# Altium footprint library 93AA66C.PcbLib: 3 footprints
Each footprint in its own frame and in the unit in brackets; x right, y up, seen from the top. Pads: shape width x height; smd on the part's side, far side on the other; paste and mask are expansions set on the pad; w line width, h text height; cw(c..) or ccw(c..) is an arc to the next point about the centre after c.
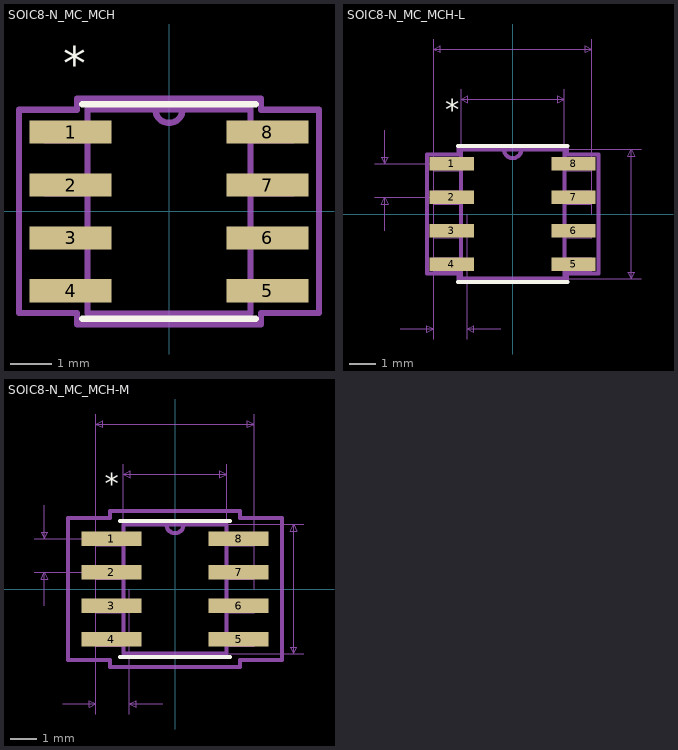
[diagram p0: the footprints below, top view; thin cyan lines are the x and y axes]

## SOIC8-N_MC_MCH [mil]
pads (8):
  rect 77.56x21.97 smd: 1(-93,75) 2(-93,25) 3(-93,-25) 4(-93,-75) 5(93,-75) 6(93,-25) 7(93,25) 8(93,75)
Top Overlay:
  lines w6: -82,-101.5 82,-101.5 ; -82,101.5 82,101.5
  text "*" at -100,125 h31.25
Outline:
  lines w1: -12,96.5 ccw(c0,96.5) 12,96.5 ; -118,-85 -118,-65 -77,-65 -77,-85 -118,-85 ; -118,-35 -118,-15 -77,-15 -77,-35 -118,-35 ; -118,15 -118,35 -77,35 -77,15 -118,15 ; -118,65 -118,85 -77,85 -77,65 -118,65 ; -77,-96.5 77,-96.5 77,96.5 -77,96.5 -77,-96.5 ; 77,-85 77,-65 118,-65 118,-85 77,-85 ; 77,-35 77,-15 118,-15 118,-35 77,-35 ; 77,15 77,35 118,35 118,15 77,15 ; 77,65 77,85 118,85 118,65 77,65
  text "*" at -62,93.5 h31.25
Courtyard Bottom:
  lines w6: -12.83,96.5 ccw(c0,96.5) 12.83,96.5 ; -141.78,-95.98 -141.78,95.98 -87,95.98 -87,106.5 87,106.5 87,95.98 141.78,95.98 141.78,-95.98 87,-95.98 87,-106.5 -87,-106.5 -87,-95.98 -141.78,-95.98 ; -77,-96.5 -77,96.5 77,96.5 77,-96.5 -77,-96.5
3D body: height 69.09, standoff 0, extent -117.99,-96.49 118,96.5

## SOIC8-N_MC_MCH-L [mil]
pads (8):
  rect 65.75x20 all layers, no hole: 1(-91.03,75) 2(-91.03,25) 3(-91.03,-25) 4(-91.03,-75) 5(91.03,-75) 6(91.03,-25) 7(91.03,25) 8(91.03,75)
Top Overlay:
  lines w6: -82,-101.5 82,-101.5 ; -82,101.5 82,101.5
  text "*" at -101.03,140 h31.25
Outline:
  lines w1: -12,96.5 ccw(c0,96.5) 12,96.5 ; -118,-85 -77,-85 -77,-65 -118,-65 -118,-85 ; -118,-35 -77,-35 -77,-15 -118,-15 -118,-35 ; -118,15 -77,15 -77,35 -118,35 -118,15 ; -118,65 -77,65 -77,85 -118,85 -118,65 ; -77,-96.5 -77,96.5 77,96.5 77,-96.5 -77,-96.5 ; 77,-85 118,-85 118,-65 77,-65 77,-85 ; 77,-35 118,-35 118,-15 77,-15 77,-35 ; 77,15 118,15 118,35 77,35 77,15 ; 77,65 118,65 118,85 77,85 77,65
  text "*" at -62,93.5 h31.25
Courtyard Bottom:
  lines w1: -206.03,25 -91.03,25 ; -206.03,75 -91.03,75 ; -191.03,-25 -191.03,25 ; -191.03,125 -191.03,75 ; -168,-171.5 -118,-171.5 ; -118,-186.5 -118,0 -118,261.5 ; -77,0 -77,186.5 ; -68,-186.5 -68,0 ; -18,-171.5 -68,-171.5 ; 0,-96.5 192,-96.5 ; 0,96.5 192,96.5 ; 77,0 77,186.5 ; 118,0 118,261.5 ; -191.03,25 -186.03,15 -196.03,15 -191.03,25 ; -191.03,75 -186.03,85 -196.03,85 -191.03,75 ; -118,-171.5 -128,-176.5 -128,-166.5 -118,-171.5 ; -118,246.5 -108,241.5 -108,251.5 -118,246.5 ; -118,246.5 118,246.5 ; -77,171.5 -67,166.5 -67,176.5 -77,171.5 ; -77,171.5 77,171.5 ; -68,-171.5 -58,-176.5 -58,-166.5 -68,-171.5 ; 77,171.5 67,166.5 67,176.5 77,171.5 ; 118,246.5 108,241.5 108,251.5 118,246.5 ; 177,-96.5 182,-86.5 172,-86.5 177,-96.5 ; 177,-96.5 177,96.5 ; 177,96.5 182,86.5 172,86.5 177,96.5
  lines w6: -12.83,96.5 ccw(c0,96.5) 12.83,96.5 ; -127.91,-89 -81,-89 -81,-100.5 81,-100.5 81,-89 127.91,-89 127.91,89 81,89 81,100.5 -81,100.5 -81,89 -127.91,89 -127.91,-89 ; -77,-96.5 77,-96.5 77,96.5 -77,96.5 -77,-96.5
  text "0.05in/1.27mm" at -93,-191.5 h15.62
  text "0.05in/1.27mm" at -211.03,50 h15.62
  text "0.193in/4.902mm" at 197,0 h15.62
  text "0.236in/5.994mm" at 0,266.5 h15.62
  text "0.154in/3.912mm" at 0,191.5 h15.62
  text "Alt 2 Padstyle: b229_152h76" at 0,-546.5 h31.25
  text "Alt 1 Padstyle: b152_229h76" at 0,-486.5 h31.25
  text "Pin One Padstyle: r167_51" at 0,-306.5 h31.25
  text "Default Padstyle: r167_51" at 0,-246.5 h31.25

## SOIC8-N_MC_MCH-M [mm]
pads (8):
  rect 2.27x0.558 all layers, no hole: 1(-2.412,1.905) 2(-2.412,0.635) 3(-2.412,-0.635) 4(-2.412,-1.905) 5(2.412,-1.905) 6(2.412,-0.635) 7(2.412,0.635) 8(2.412,1.905)
Top Overlay:
  lines w0.152: -2.083,-2.578 2.083,-2.578 ; -2.083,2.578 2.083,2.578
  text "*" at -2.666,3.606 h0.79
Outline:
  lines w0.025: -0.305,2.451 ccw(c0,2.451) 0.305,2.451 ; -2.997,-2.159 -1.956,-2.159 -1.956,-1.651 -2.997,-1.651 -2.997,-2.159 ; -2.997,-0.889 -1.956,-0.889 -1.956,-0.381 -2.997,-0.381 -2.997,-0.889 ; -2.997,0.381 -1.956,0.381 -1.956,0.889 -2.997,0.889 -2.997,0.381 ; -2.997,1.651 -1.956,1.651 -1.956,2.159 -2.997,2.159 -2.997,1.651 ; -1.956,-2.451 -1.956,2.451 1.956,2.451 1.956,-2.451 -1.956,-2.451 ; 1.956,-2.159 2.997,-2.159 2.997,-1.651 1.956,-1.651 1.956,-2.159 ; 1.956,-0.889 2.997,-0.889 2.997,-0.381 1.956,-0.381 1.956,-0.889 ; 1.956,0.381 2.997,0.381 2.997,0.889 1.956,0.889 1.956,0.381 ; 1.956,1.651 2.997,1.651 2.997,2.159 1.956,2.159 1.956,1.651
  text "*" at -1.575,2.375 h0.79
Courtyard Bottom:
  lines w0.025: -5.333,0.635 -2.412,0.635 ; -5.333,1.905 -2.412,1.905 ; -4.952,-0.635 -4.952,0.635 ; -4.952,3.175 -4.952,1.905 ; -4.267,-4.356 -2.997,-4.356 ; -2.997,-4.737 -2.997,0 -2.997,6.642 ; -1.956,0 -1.956,4.737 ; -1.727,-4.737 -1.727,0 ; -0.457,-4.356 -1.727,-4.356 ; 0,-2.451 4.877,-2.451 ; 0,2.451 4.877,2.451 ; 1.956,0 1.956,4.737 ; 2.997,0 2.997,6.642 ; -4.952,0.635 -4.825,0.381 -5.079,0.381 -4.952,0.635 ; -4.952,1.905 -4.825,2.159 -5.079,2.159 -4.952,1.905 ; -2.997,-4.356 -3.251,-4.483 -3.251,-4.229 -2.997,-4.356 ; -2.997,6.261 -2.743,6.134 -2.743,6.388 -2.997,6.261 ; -2.997,6.261 2.997,6.261 ; -1.956,4.356 -1.702,4.229 -1.702,4.483 -1.956,4.356 ; -1.956,4.356 1.956,4.356 ; -1.727,-4.356 -1.473,-4.483 -1.473,-4.229 -1.727,-4.356 ; 1.956,4.356 1.702,4.229 1.702,4.483 1.956,4.356 ; 2.997,6.261 2.743,6.134 2.743,6.388 2.997,6.261 ; 4.496,-2.451 4.623,-2.197 4.369,-2.197 4.496,-2.451 ; 4.496,-2.451 4.496,2.451 ; 4.496,2.451 4.623,2.197 4.369,2.197 4.496,2.451
  lines w0.152: -0.326,2.451 ccw(c0,2.451) 0.326,2.451 ; -4.055,-2.692 -2.464,-2.692 -2.464,-2.959 2.464,-2.959 2.464,-2.692 4.055,-2.692 4.055,2.692 2.464,2.692 2.464,2.959 -2.464,2.959 -2.464,2.692 -4.055,2.692 -4.055,-2.692 ; -1.956,-2.451 1.956,-2.451 1.956,2.451 -1.956,2.451 -1.956,-2.451
  text "0.05in/1.27mm" at -2.362,-4.864 h0.4
  text "0.05in/1.27mm" at -5.46,1.27 h0.4
  text "0.193in/4.902mm" at 5.004,0 h0.4
  text "0.236in/5.994mm" at 0,6.769 h0.4
  text "0.154in/3.912mm" at 0,4.864 h0.4
  text "Alt 2 Padstyle: b229_152h76" at 0,-13.881 h0.79
  text "Alt 1 Padstyle: b152_229h76" at 0,-12.357 h0.79
  text "Pin One Padstyle: r227_56" at 0,-7.785 h0.79
  text "Default Padstyle: r227_56" at 0,-6.261 h0.79